# Altium footprint library PCB Library.PcbLib: 41 footprints (part 1 of 3)
Each footprint in its own frame and in the unit in brackets; x right, y up, seen from the top. Pads: shape width x height; smd on the part's side, far side on the other; paste and mask are expansions set on the pad; w line width, h text height; cw(c..) or ccw(c..) is an arc to the next point about the centre after c.
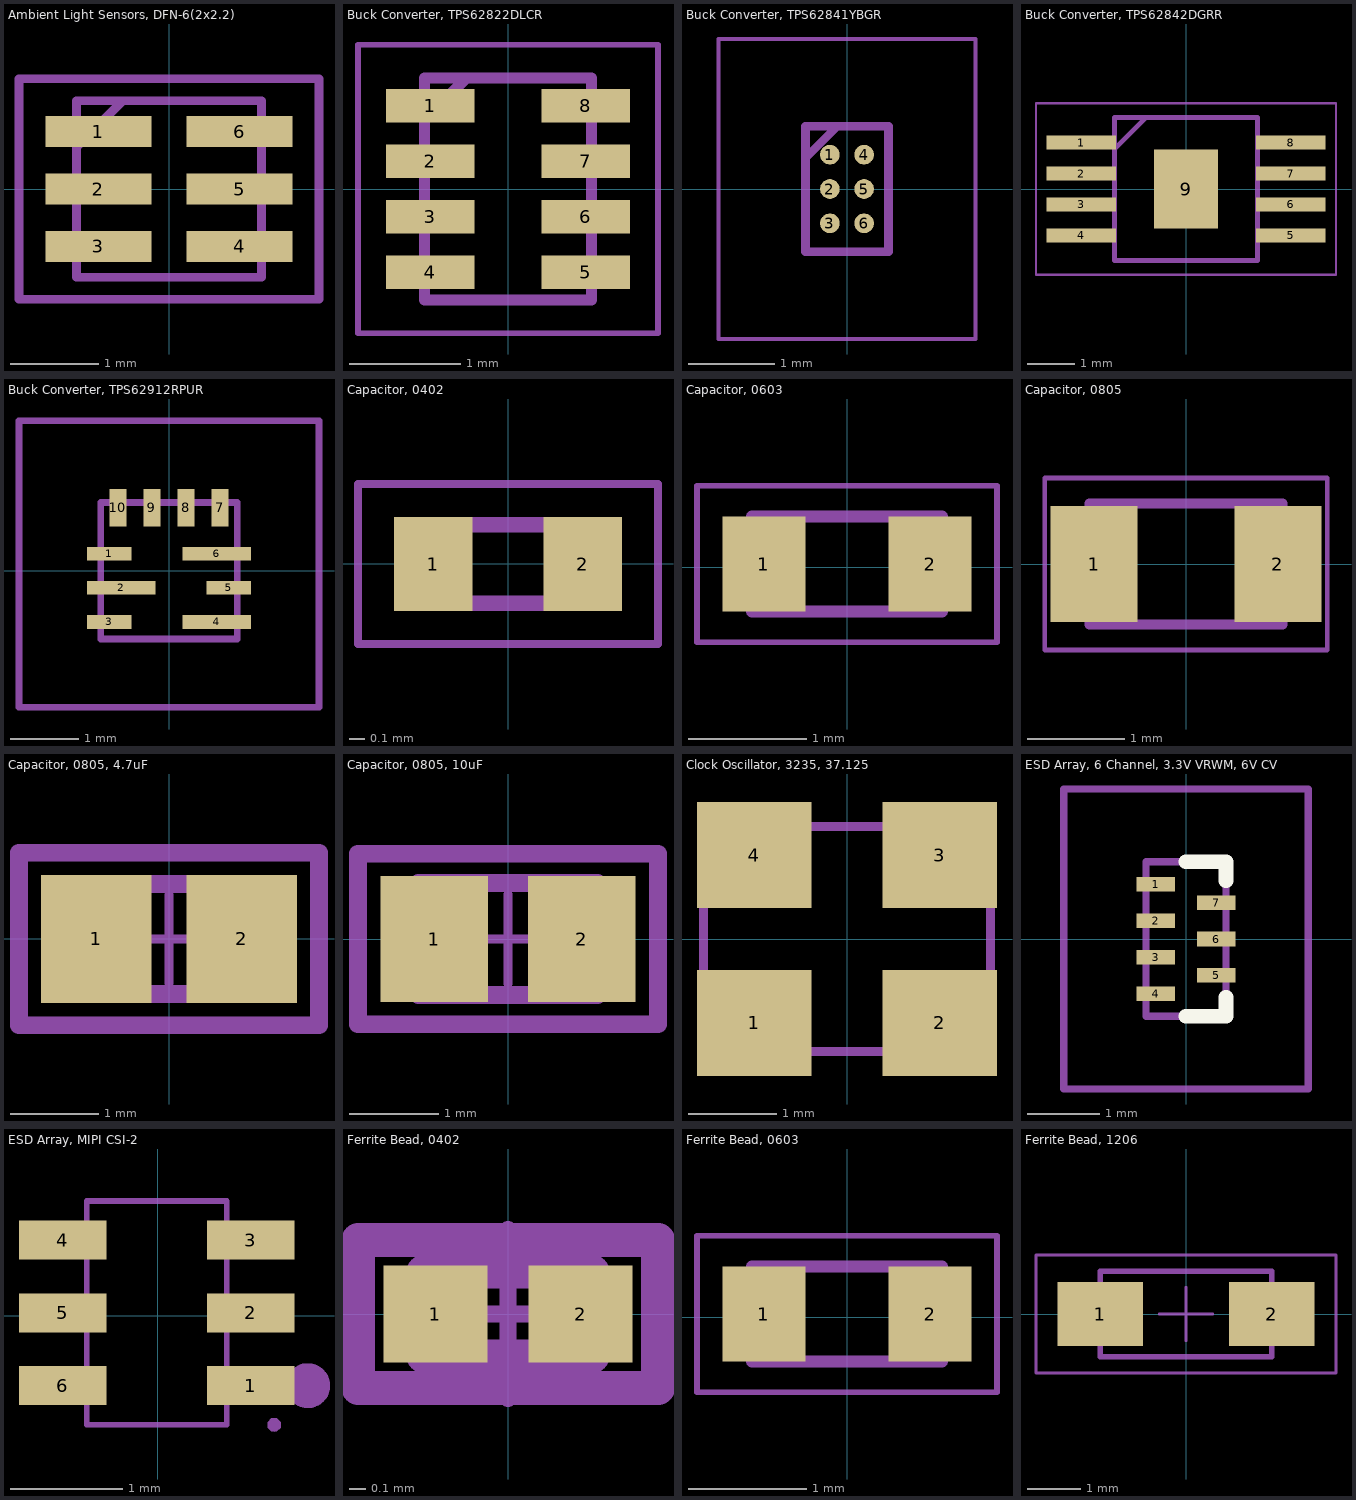
[diagram p0: the footprints below, top view; thin cyan lines are the x and y axes]

## Ambient Light Sensors, DFN-6(2x2.2) [mm]
pads (6):
  rect 1.2x0.35 smd mask+0: 1(-0.8,0.65) 2(-0.8,0) 3(-0.8,-0.65) 4(0.8,-0.65) 5(0.8,0) 6(0.8,0.65)
Mechanical 13:
  lines w0.1: -1.05,0.475 -0.525,1 ; -1.05,-1 -1.05,1 1.05,1 1.05,-1 -1.05,-1
Mechanical 15:
  lines w0.1: -1.7,-1.25 -1.7,1.25 1.7,1.25 1.7,-1.25 -1.7,-1.25
3D body "ISL76682AROZ-T7A.stp": height 0.8, standoff 0, extent -1.1,-1 1.1,1

## Buck Converter, TPS62822DLCR [mm]
pads (8):
  rect 0.8x0.3 smd mask+0: 1(-0.7,0.75) 2(-0.7,0.25) 3(-0.7,-0.25) 4(-0.7,-0.75) 5(0.7,-0.75) 6(0.7,-0.25) 7(0.7,0.25) 8(0.7,0.75)
Mechanical 13:
  lines w0.1: -0.75,0.625 -0.375,1 ; -0.75,-1 -0.75,1 0.75,1 0.75,-1 -0.75,-1
Mechanical 15:
  lines w0.05: -1.35,-1.3 -1.35,1.3 1.35,1.3 1.35,-1.3 -1.35,-1.3
3D body "TPS62822DLCR.stp": height 1, standoff 0, extent -0.8,-1 0.8,1

## Buck Converter, TPS62841YBGR [mm]
pads (6):
  round 0.23 smd mask+0: 1(-0.2,0.4) 2(-0.2,0) 3(-0.2,-0.4) 4(0.2,0.4) 5(0.2,0) 6(0.2,-0.4)
Mechanical 13:
  lines w0.1: -0.484,0.36 -0.11,0.734 ; -0.484,-0.734 -0.484,0.734 0.484,0.734 0.484,-0.734 -0.484,-0.734
Mechanical 15:
  lines w0.05: -1.499,-1.749 -1.499,1.749 1.499,1.749 1.499,-1.749 -1.499,-1.749
3D body "TPS62841YBGR.stp": height 0.5, standoff 0, extent -0.484,-0.734 0.484,0.734

## Buck Converter, TPS62842DGRR [mm]
pads (9):
  rect 1.45x0.3 smd mask+0: 1(-2.2,0.975) 2(-2.2,0.325) 3(-2.2,-0.325) 4(-2.2,-0.975) 5(2.2,-0.975) 6(2.2,-0.325) 7(2.2,0.325) 8(2.2,0.975)
  rect 1.35x1.65 smd mask+0: 9(0,0)
Mechanical 13:
  lines w0.1: -1.5,0.85 -0.85,1.5 ; -1.5,-1.5 1.5,-1.5 1.5,1.5 -1.5,1.5 -1.5,-1.5
Mechanical 15:
  lines w0.05: -3.15,-1.8 3.15,-1.8 3.15,1.8 -3.15,1.8 -3.15,-1.8
3D body "TPS62842DGRR.stp": height 0.95, standoff 0, extent -2.459,-1.5 2.459,1.5

## Buck Converter, TPS62912RPUR [mm]
pads (10):
  rect 0.65x0.2 smd mask+0: 1(-0.875,0.25) 3(-0.875,-0.75) 5(0.875,-0.25)
  rect 1x0.2 smd mask+0: 2(-0.7,-0.25) 4(0.7,-0.75) 6(0.7,0.25)
  rect 0.25x0.55 smd mask+0: 7(0.75,0.925) 8(0.25,0.925) 9(-0.25,0.925) 10(-0.75,0.925)
Mechanical 13:
  lines w0.1: -1,-1 1,-1 1,1 -1,1 -1,-1
Mechanical 15:
  lines w0.1: -2.2,-2 2.2,-2 2.2,2.2 -2.2,2.2 -2.2,-2
3D body "TPS62912RPUR.stp": height 0.95, standoff 0, extent -1.01,-1 1.01,1.01

## Capacitor, 0402 [mm]
pads (2):
  rect 0.5x0.6 smd mask+0: 1(-0.475,0) 2(0.475,0)
Mechanical 13:
  lines w0.1: -0.5,-0.25 -0.5,0.25 0.5,0.25 0.5,-0.25 -0.5,-0.25
Mechanical 15:
  lines w0.05: -0.955,-0.51 -0.955,0.51 0.955,0.51 0.955,-0.51 -0.955,-0.51
3D body "04024W226MAT2A.stp": height 0.8, standoff 0, extent -0.5,-0.25 0.5,0.25

## Capacitor, 0603 [mm]
pads (2):
  rect 0.7x0.8 smd mask+0: 1(-0.7,0.025) 2(0.7,0.025)
Mechanical 13:
  lines w0.1: -0.8,-0.375 -0.8,0.425 0.8,0.425 0.8,-0.375 -0.8,-0.375
Mechanical 15:
  lines w0.05: -1.265,-0.635 -1.265,0.685 1.265,0.685 1.265,-0.635 -1.265,-0.635
3D body "885012106031.stp": height 1, standoff 0, extent -0.8,-0.375 0.8,0.425

## Capacitor, 0805 [mm]
pads (2):
  rect 0.9x1.2 smd mask+0: 1(-0.95,0) 2(0.95,0)
Mechanical 13:
  lines w0.1: -1,-0.625 -1,0.625 1,0.625 1,-0.625 -1,-0.625
Mechanical 15:
  lines w0.05: -1.46,-0.89 -1.46,0.89 1.46,0.89 1.46,-0.89 -1.46,-0.89
3D body "C2012X7S1E106K125AC.stp": height 1.6, standoff 0, extent -1,-0.625 1,0.625

## Capacitor, 0805, 4.7uF [mm]
pads (2):
  rect 1.255x1.456 smd paste+0 mask+0: 1(-0.826,0) 2(0.826,0)
Top 3D Body:
  lines w0.2: -1,-0.625 -1,0.625 1,0.625 1,-0.625 -1,-0.625
Top Courtyard:
  lines w0.2: -1.703,-0.978 -1.703,0.978 1.703,0.978 1.703,-0.978 -1.703,-0.978
Top Assembly:
  lines w0.2: -1.703,-0.978 -1.703,0.978 1.703,0.978 1.703,-0.978 -1.703,-0.978
Top Component Center:
  lines w0.1: -0.5,0 0.5,0 ; 0,-0.5 0,0.5
3D body "Cap_Samsung_CL21B273KBANNNC_eec.STEP": height 0.25, standoff 0, extent -1.703,-0.978 1.703,0.978

## Capacitor, 0805, 10uF [mm]
pads (2):
  rect 1.206x1.408 smd paste+0 mask+0: 1(-0.826,0) 2(0.826,0)
Top 3D Body:
  lines w0.2: -1,-0.625 1,-0.625 1,0.625 -1,0.625 -1,-0.625
Top Courtyard:
  lines w0.2: -1.679,-0.954 1.679,-0.954 1.679,0.954 -1.679,0.954 -1.679,-0.954
Top Assembly:
  lines w0.2: -1.679,-0.954 1.679,-0.954 1.679,0.954 -1.679,0.954 -1.679,-0.954
Top Component Center:
  lines w0.1: -0.5,0 0.5,0 ; 0,-0.5 0,0.5
3D body "Cap_Samsung_Electro-Mechanics_America_Inc_CL21B106KOQNNNE_eec.STEP": height 0.25, standoff 0, extent -1.679,-0.954 1.679,0.954

## Clock Oscillator, 3235, 37.125 [mm]
pads (4):
  rect 1.3x1.2 smd mask+0: 1(-1.05,-0.95) 2(1.05,-0.95) 3(1.05,0.95) 4(-1.05,0.95)
Mechanical 13:
  lines w0.1: -1.625,-1.275 -1.625,1.275 1.625,1.275 1.625,-1.275 -1.625,-1.275
3D body "Crys_SiTime_SiT8008BC-23-33N-24_576000_eec.STEP": height 0.25, standoff 0, extent -1.9,-1.65 1.9,1.65

## ESD Array, 6 Channel, 3.3V VRWM, 6V CV [mm] "PUSB3AB6Z"
pads (7):
  rect 0.53x0.2 smd mask+0: 1(-0.415,0.75) 2(-0.415,0.25) 3(-0.415,-0.25) 4(-0.415,-0.75) 5(0.415,-0.5) 6(0.415,0) 7(0.415,0.5)
Top Overlay:
  lines w0.2: 0,-1.063 0.55,-1.063 0.55,-0.8 ; 0,1.063 0.55,1.063 0.55,0.8
Mechanical 13:
  lines w0.1: -0.55,-1.063 0.55,-1.063 0.55,1.063 -0.55,1.063 -0.55,-1.063
Mechanical 15:
  lines w0.1: -1.68,-2.063 1.68,-2.063 1.68,2.063 -1.68,2.063 -1.68,-2.063
3D body "PUSB3AB6Z.stp": height 0.5, standoff 0, extent -0.552,-1.049 0.548,1.051

## ESD Array, MIPI CSI-2 [mm]
pads (6):
  rect 0.78x0.35 smd: 1(0.831,-0.625) 2(0.831,0.025) 3(0.831,0.675) 4(-0.849,0.675) 5(-0.849,0.025) 6(-0.849,-0.625)
Mechanical 6:
  circle w0.2: c1.341,-0.625 r0.1
Mechanical 15:
  region: 1.041,-0.915 1.017,-0.915 0.983,-0.95 0.983,-0.999 1.017,-1.034 1.041,-1.035 1.066,-1.034 1.1,-0.999 1.1,-0.95 1.066,-0.915
  region: 0.741,-0.75 0.741,-0.5 1.041,-0.5 1.041,-0.75
  region: 0.606,-0.75 0.606,-0.5 0.751,-0.5 0.751,-0.75
  region: 0.741,-0.1 0.741,0.15 1.041,0.15 1.041,-0.1
  region: 0.606,-0.1 0.606,0.15 0.751,0.15 0.751,-0.1
  region: 0.741,0.55 0.741,0.8 1.041,0.8 1.041,0.55
  region: 0.606,0.55 0.606,0.8 0.751,0.8 0.751,0.55
  region: -0.759,0.55 -0.759,0.8 -1.059,0.8 -1.059,0.55
  region: -0.769,0.55 -0.769,0.8 -0.624,0.8 -0.624,0.55
  region: -0.759,-0.1 -0.759,0.15 -1.059,0.15 -1.059,-0.1
  region: -0.769,-0.1 -0.769,0.15 -0.624,0.15 -0.624,-0.1
  region: -0.759,-0.75 -0.759,-0.5 -1.059,-0.5 -1.059,-0.75
  region: -0.769,-0.75 -0.769,-0.5 -0.624,-0.5 -0.624,-0.75
  lines w0.051: -0.634,-0.975 -0.634,1.025 0.616,1.025 0.616,-0.975 -0.634,-0.975
3D body "DCK0006AakaMAA06.stp": height 0.94, standoff -0.01, extent -1.14,-0.975 1.14,1.025

## Ferrite Bead, 0402 [mm]
pads (2):
  rect 0.615x0.572 smd paste+0 mask+0: 1(-0.429,0) 2(0.429,0)
Top 3D Body:
  lines w0.2: -0.5,-0.25 0.5,-0.25 0.5,0.25 -0.5,0.25 -0.5,-0.25
Top Courtyard:
  lines w0.2: -0.886,-0.436 0.886,-0.436 0.886,0.436 -0.886,0.436 -0.886,-0.436
Top Assembly:
  lines w0.2: -0.886,-0.436 0.886,-0.436 0.886,0.436 -0.886,0.436 -0.886,-0.436
Top Component Center:
  lines w0.1: -0.5,0 0.5,0 ; 0,-0.5 0,0.5
3D body "FBead_Murata_BLM15PX471SN1B_eec.STEP": height 0.25, standoff 0, extent -0.886,-0.436 0.886,0.436

## Ferrite Bead, 0603 [mm]
pads (2):
  rect 0.7x0.8 smd mask+0: 1(-0.7,0.025) 2(0.7,0.025)
Mechanical 13:
  lines w0.1: -0.8,-0.375 0.8,-0.375 0.8,0.425 -0.8,0.425 -0.8,-0.375
Mechanical 15:
  lines w0.05: -1.265,-0.635 1.265,-0.635 1.265,0.685 -1.265,0.685 -1.265,-0.635
3D body "FER 0603.STEP": height 0.82, standoff 0, extent -0.8,-0.387 0.8,0.437

## Ferrite Bead, 1206 [mm] "SMD EMI Multilayer Power Suppression Bead, body 3.20x1.60mm"
height 1.3
pads (2):
  rect 1.6x1.2 smd mask+0: 1(-1.6,0) 2(1.6,0)
Top 3D Body:
  lines w0.1: -1.6,-0.8 1.6,-0.8 1.6,0.8 -1.6,0.8 -1.6,-0.8
Top Courtyard:
  lines w0.05: -0.5,0 0.5,0 ; 0,-0.5 0,0.5 ; -2.8,-1.1 -2.8,1.1 2.8,1.1 2.8,-1.1 -2.8,-1.1
Top Component Outline:
  lines w0.1: -1.6,-0.8 1.6,-0.8 1.6,0.8 -1.6,0.8 -1.6,-0.8
3D body "FeMPSB_120604.stp": height 1.1, standoff 0, extent -1.6,-0.8 1.6,0.8